# EAGLE library part LTC3824 (library PowerProducts)
High Voltage Step-Down Controller With 40_A Quiescent Current
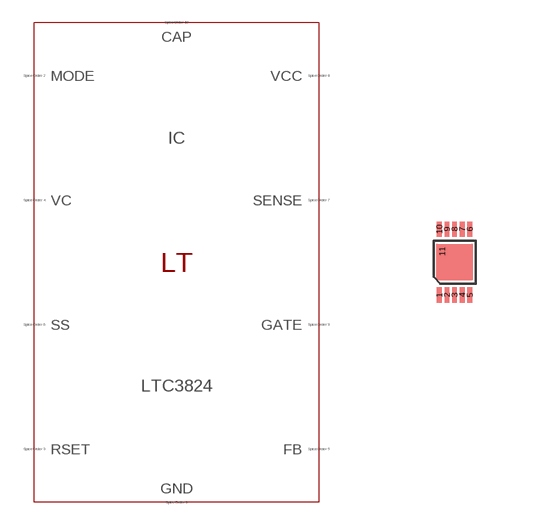
[diagram p350: symbol with the pads of MSOP10(MSE); footprint MSOP10(MSE)]

Designator prefix IC

## LTC3824 (SPICEMODEL: LTC3824.sub; SPICEPREFIX: X; VALUE2: LTC3824)  [MSOP10(MSE)]
1  GND  pas
2  MODE  pas
3  RSET  pas
4  VC  pas
5  FB  pas
6  SS  pas
7  SENSE  pas
8  VCC  pas
9  GATE  pas
10  CAP  pas
11  GND  pas

## Footprint MSOP10(MSE) (pad centres in mm)
Package generated from: MSOP10(MSE).asc (!PADS-POWERPCB-V9.3-BASIC! DESIGN DATABASE ASCII FILE 1.0) with :import-pads-powerpcb-v5.ulp Version 1.0.1 at 04.10.2012 14:11:19
smd 0.116 x 0.387: 1 -0.381,-0.823; 2 -0.191,-0.823; 3 0,-0.823; 4 0.191,-0.823; 5 0.381,-0.823; 6 0.381,0.823; 7 0.191,0.823; 8 0,0.823; 9 -0.191,0.823; 10 -0.381,0.823
smd 0 x 0.097: 11 -0.31,0.271